# EAGLE library part ATMEGA32*QFP (library IC_Embedded)
8-bit Microcontroller with 32KBytes In-System Programmable Flash Datasheet <http://ww1.microchip.com/downloads/en/DeviceDoc/doc2503.pdf>
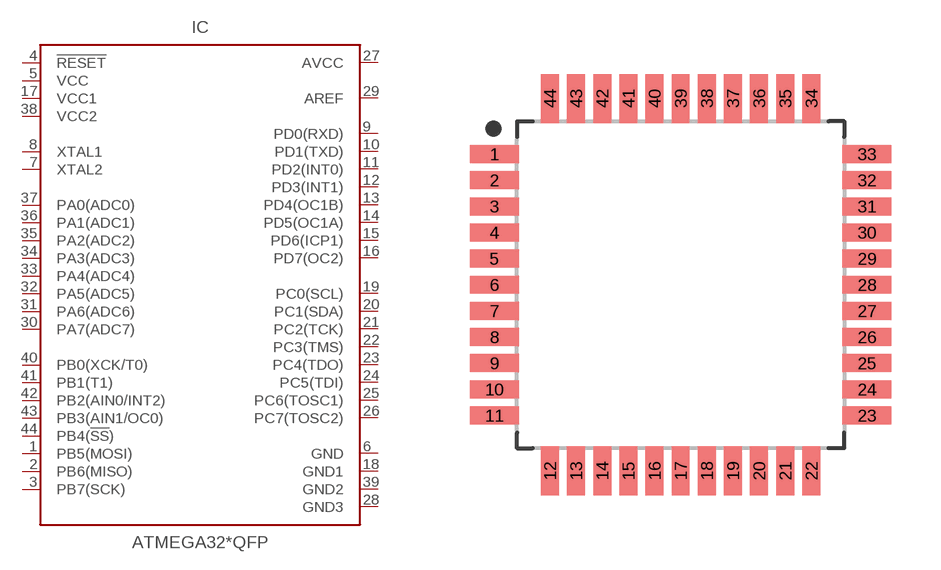
[diagram p16: symbol with the pads of QFP80P1200X1200X120-44; footprint QFP80P1200X1200X120-44]

Designator prefix IC

## ATMEGA32-16AQR_QFP (CATEGORY: IC_Embedded; DESCRIPTION: IC MCU 8BIT 32KB FLASH 44TQFP; MANUFACTURER: Microchip Technology; MPN: ATMEGA32-16AQR; OPERATING_TEMP: -40°C to 105°C; PART_STATUS: Active; SERIES: AVR® ATmega; SPEED: 16MHz; SUB-CATEGORY: Microcontroller; VALUE: ATMEGA16), ATMEGA32-16AQ_QFP (CATEGORY: IC_Embedded; DESCRIPTION: IC MCU 8BIT 32KB FLASH 44TQFP; MANUFACTURER: Microchip Technology; MPN: ATMEGA32-16AQ; OPERATING_TEMP: -40°C to 105°C; PART_STATUS: Active; SERIES: AVR® ATmega; SPEED: 16MHz; SUB-CATEGORY: Microcontroller; VALUE: ATMEGA16), ATMEGA32-16AUR_QFP (CATEGORY: IC_Embedded; DESCRIPTION: IC MCU 8BIT 32KB FLASH 44TQFP; MANUFACTURER: Microchip Technology; MPN: ATMEGA32-16AUR; OPERATING_TEMP: -40°C to 85°C; PART_STATUS: Active; SERIES: AVR® ATmega; SPEED: 16MHz; SUB-CATEGORY: Microcontroller; VALUE: ATMEGA16), ATMEGA32-16AU_QFP (CATEGORY: IC_Embedded; DESCRIPTION: IC MCU 8BIT 32KB FLASH 44TQFP; MANUFACTURER: Microchip Technology; MPN: ATMEGA32-16AU; OPERATING_TEMP: -40°C to 85°C; PART_STATUS: Active; SERIES: AVR® ATmega; SPEED: 16MHz; SUB-CATEGORY: Microcontroller; VALUE: ATMEGA16), ATMEGA32A-ANR_QFP (CATEGORY: IC_Embedded; DESCRIPTION: IC MCU 8BIT 32KB FLASH 44TQFP; MANUFACTURER: Microchip Technology; MPN: ATMEGA32A-ANR; OPERATING_TEMP: -40°C to 105°C; PART_STATUS: Active; SERIES: AVR® ATmega; SPEED: 16MHz; SUB-CATEGORY: Microcontroller; VALUE: ATMEGA16), ATMEGA32A-AN_QFP (CATEGORY: IC_Embedded; DESCRIPTION: IC MCU 8BIT 32KB FLASH 44TQFP; MANUFACTURER: Microchip Technology; MPN: ATMEGA32A-AN; OPERATING_TEMP: -40°C to 105°C; PART_STATUS: Active; SERIES: AVR® ATmega; SPEED: 16MHz; SUB-CATEGORY: Microcontroller; VALUE: ATMEGA16), ATMEGA32A-AUR_QFP (CATEGORY: IC_Embedded; DESCRIPTION: IC MCU 8BIT 32KB FLASH 44TQFP; MANUFACTURER: Microchip Technology; MPN: ATMEGA32A-AUR; OPERATING_TEMP: -40°C to 85°C; PART_STATUS: Active; SERIES: AVR® ATmega; SPEED: 16MHz; SUB-CATEGORY: Microcontroller; VALUE: ATMEGA16), ATMEGA32A-AU_QFP (CATEGORY: IC_Embedded; DESCRIPTION: IC MCU 8BIT 32KB FLASH 44TQFP; MANUFACTURER: Microchip Technology; MPN: ATMEGA32A-AU; OPERATING_TEMP: -40°C to 85°C; PART_STATUS: Active; SERIES: AVR® ATmega; SPEED: 16MHz; SUB-CATEGORY: Microcontroller; VALUE: ATMEGA16), ATMEGA32L-8AUR_QFP (CATEGORY: IC_Embedded; DESCRIPTION: IC MCU 8BIT 32KB FLASH 44TQFP; MANUFACTURER: Microchip Technology; MPN: ATMEGA32L-8AUR; OPERATING_TEMP: -40°C to 85°C; PART_STATUS: Active; SERIES: AVR® ATmega; SPEED: 8MHz; SUB-CATEGORY: Microcontroller; VALUE: ATMEGA16), ATMEGA32L-8AU_QFP (CATEGORY: IC_Embedded; DESCRIPTION: IC MCU 8BIT 32KB FLASH 44TQFP; MANUFACTURER: Microchip Technology; MPN: ATMEGA32L-8AU; OPERATING_TEMP: -40°C to 85°C; PART_STATUS: Active; SERIES: AVR® ATmega; SPEED: 8MHz; SUB-CATEGORY: Microcontroller; VALUE: ATMEGA16)  [QFP80P1200X1200X120-44]
1  PB5(MOSI)
2  PB6(MISO)
3  PB7(SCK)
4  !RESET!  in
5  VCC  pwr
6  GND  pwr
7  XTAL2  pas
8  XTAL1  pas
9  PD0(RXD)
10  PD1(TXD)
11  PD2(INT0)
12  PD3(INT1)
13  PD4(OC1B)
14  PD5(OC1A)
15  PD6(ICP1)
16  PD7(OC2)
17  VCC1  pwr
18  GND1  pwr
19  PC0(SCL)
20  PC1(SDA)
21  PC2(TCK)  in
22  PC3(TMS)  in
23  PC4(TDO)  out
24  PC5(TDI)  in
25  PC6(TOSC1)
26  PC7(TOSC2)
27  AVCC  pwr
28  GND3  pwr
29  AREF  pas
30  PA7(ADC7)
31  PA6(ADC6)
32  PA5(ADC5)
33  PA4(ADC4)
34  PA3(ADC3)
35  PA2(ADC2)
36  PA1(ADC1)
37  PA0(ADC0)
38  VCC2  pwr
39  GND2  pwr
40  PB0(XCK/T0)
41  PB1(T1)
42  PB2(AIN0/INT2)
43  PB3(AIN1/OC0)
44  PB4(!SS!)

## Footprint QFP80P1200X1200X120-44 (pad centres in mm)
44-QFP, 0.80 mm pitch, 12.00 mm span, 10.00 X 10.00 X 1.20 mm body 44-pin QFP package with 0.80 mm pitch, 12.00 mm lead span1 X 12.00 mm lead span2 with body size 10.00 X 10.00 X 1.20 mm
smd 1.5 x 0.55: 1 -5.7,4; 2 -5.7,3.2; 3 -5.7,2.4; 4 -5.7,1.6; 5 -5.7,0.8; 6 -5.7,0; 7 -5.7,-0.8; 8 -5.7,-1.6; 9 -5.7,-2.4; 10 -5.7,-3.2; 11 -5.7,-4; 23 5.7,-4; 24 5.7,-3.2; 25 5.7,-2.4; 26 5.7,-1.6; 27 5.7,-0.8; 28 5.7,0; 29 5.7,0.8; 30 5.7,1.6; 31 5.7,2.4; 32 5.7,3.2; 33 5.7,4
smd 0.55 x 1.5: 12 -4,-5.7; 13 -3.2,-5.7; 14 -2.4,-5.7; 15 -1.6,-5.7; 16 -0.8,-5.7; 17 0,-5.7; 18 0.8,-5.7; 19 1.6,-5.7; 20 2.4,-5.7; 21 3.2,-5.7; 22 4,-5.7; 34 4,5.7; 35 3.2,5.7; 36 2.4,5.7; 37 1.6,5.7; 38 0.8,5.7; 39 0,5.7; 40 -0.8,5.7; 41 -1.6,5.7; 42 -2.4,5.7; 43 -3.2,5.7; 44 -4,5.7